# EAGLE library part MCP6N11 (library inamp-microchip)
Low Cost, Low Power, Instrumentation Amplifier Source: http://www.analog.com/UploadedFiles/Data_Sheets/37793330023930AD620_e.pdf
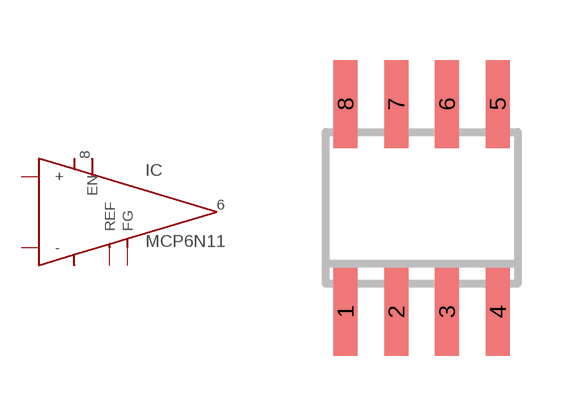
[diagram p1: symbol with the pads of SO-8; footprint SO-8]

Designator prefix IC

## MCP6N11R (MPN: AD620AR; OC_FARNELL: 1464424; OC_NEWARK: 05F7109)  [SO-8]
1  FG  in
2  -  in
3  +  in
4  -V  pwr
5  REF  in
6  OUT  out
7  +V  pwr
8  EN  in

## Footprint SO-8 (pad centres in mm)
8-Lead Small Outline IC (SO-8) Source: http://www.analog.com/UploadedFiles/Data_Sheets/703465986AD8611_2_0.pdf
smd 0.6 x 2.2: 1 -1.905,-2.6; 2 -0.635,-2.6; 3 0.635,-2.6; 4 1.905,-2.6; 5 1.905,2.6; 6 0.635,2.6; 7 -0.635,2.6; 8 -1.905,2.6